# Altium footprint library con3.PcbLib: 2 footprints
Each footprint in its own frame and in the unit in brackets; x right, y up, seen from the top. Pads: shape width x height; smd on the part's side, far side on the other; paste and mask are expansions set on the pad; w line width, h text height; cw(c..) or ccw(c..) is an arc to the next point about the centre after c.
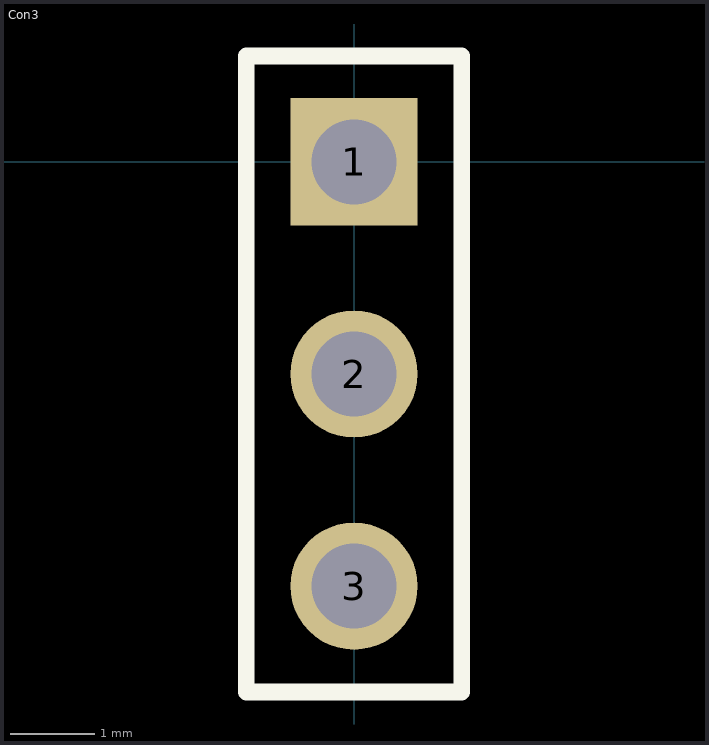
[diagram p0: the footprints below, top view; thin cyan lines are the x and y axes]

## Con3 [mm]
pads (3):
  rect 1.5x1.5 hole 1: 1(0,0)
  round 1.5 hole 1: 2(0,-2.5) 3(0,-5)
Top Overlay:
  lines w0.2: -1.27,-6.25 -1.27,1.25 1.27,1.25 1.27,-6.25 -1.27,-6.25
3D body "User Library-1x3 TH Pitch 2_54mm.STEP": height 9.5, standoff -3.2, extent -1.27,-6.27 1.27,1.35

## PCBComponent_1 [mm]